# Altium schematic symbol library NC7SZ08M5X.SchLib: 1 symbol
Pins are listed as number, name and electrical type; pins without a type are passive.

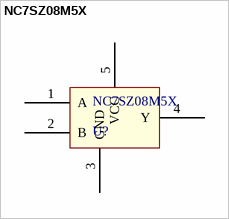
[diagram p0: symbol NC7SZ08M5X]

## NC7SZ08M5X
designator NC7SZ08M5X, comment U?
footprint NC7SZ08M5X
pins: 1 A, 2 B, 3 GND, 4 Y, 5 VCC